# Altium schematic symbol library 90120-0923.SchLib: 1 symbol
Pins are listed as number, name and electrical type; pins without a type are passive.

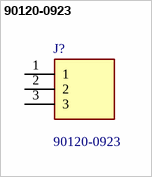
[diagram p0: symbol 90120-0923]

## 90120-0923
designator J?
Molex C-GRID III Series, Series Number 90120, 2.54mm Pitch 3 Way 1 Row Straight PCB Header, Solder Termination, 3A; Geometry.Height: 5.6mm; Mouser Part Number: 538-90120-0923; Mouser Price/Stock: https://www.mouser.co.uk/ProductDetail/Molex/90120-0923?qs=PvP5v7Eimsnghocwqx8SVQ%3D%3D; Manufacturer_Name: Molex; Manufacturer_Part_Number: 90120-0923; Datasheet Link: https://www.molex.com/webdocs/datasheets/pdf/en-us/0901200923_PCB_HEADERS.pdf
footprint HDRV3W90P0X254_1X3_762X249X560P
pins: 1, 2, 3